# Altium schematic symbol library SCH - POWER - SWITCHMODE - MAXIM MAX17504.SchLib: 1 symbol
Pins are listed as number, name and electrical type; pins without a type are passive.

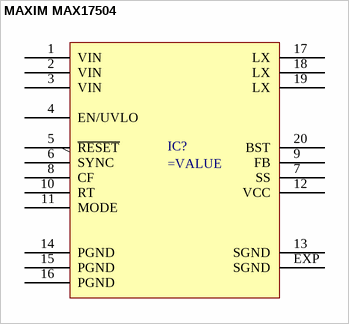
[diagram p0: symbol MAXIM MAX17504]

## MAXIM MAX17504
designator IC?
pins: 1 VIN, 2 VIN, 3 VIN, 4 EN/UVLO, 5 ~{RESET}, 6 SYNC, 7 SS, 8 CF, 9 FB, 10 RT, 11 MODE, 12 VCC, 13 SGND, 14 PGND, 15 PGND, 16 PGND, 17 LX, 18 LX, 19 LX, 20 BST, EXP SGND